# EAGLE library part HBRIDGEA4950 (library Thesis_Lib)
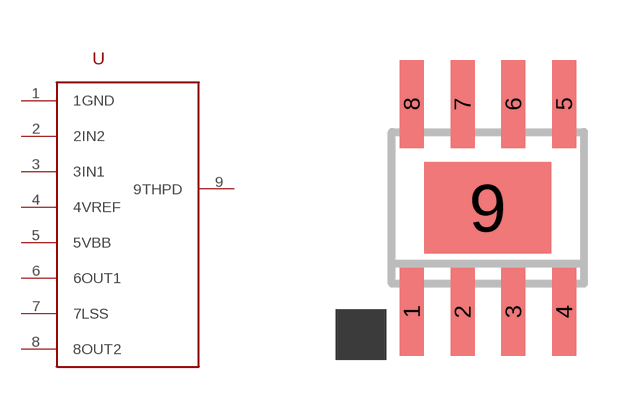
[diagram p4: symbol with the pads of SOIC8; footprint SOIC8]

Designator prefix -

## HBRIDGEA4950  [SOIC8]
1  1GND
2  2IN2
3  3IN1
4  4VREF
5  5VBB
6  6OUT1
7  7LSS
8  8OUT2
9  9THPD

## Footprint SOIC8 (pad centres in mm)
Small Outline IC
smd 0.6 x 2.2: 1 -1.905,-2.6; 2 -0.635,-2.6; 3 0.635,-2.6; 4 1.905,-2.6; 5 1.905,2.6; 6 0.635,2.6; 7 -0.635,2.6; 8 -1.905,2.6
smd 3.175 x 2.286: 9 0,0